# Altium schematic symbol library EEUFM1A471.SchLib: 1 symbol
Pins are listed as number, name and electrical type; pins without a type are passive.

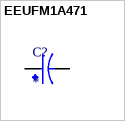
[diagram p0: symbol EEUFM1A471]

## EEUFM1A471
designator C?
Cap Aluminum Lytic 470uF 10V 20% (8 X 11.5mm) Radial 3.5mm 950mA 3000h 105C Bulk; MP: EEU-FM1A471; MF: Panasonic; Purchase-URL: https://pricing.snapeda.com/search/part/EEU-FM1A471/?ref=eda; SnapEDA_Link: https://www.snapeda.com/parts/EEU-FM1A471/Panasonic/view-part/2301689/?ref=snap; Check_prices: https://www.snapeda.com/parts/EEU-FM1A471/Panasonic/view-part/2301689/?ref=eda; Availability: In Stock; Package: RADIAL-2 Panasonic; Value: *; Price: None
footprint CAPPRD350W60D800H1150
pins: N, P